# Altium footprint library MK8000TR7.9-GC 封装.PcbLib: 1 footprints
Each footprint in its own frame and in the unit in brackets; x right, y up, seen from the top. Pads: shape width x height; smd on the part's side, far side on the other; paste and mask are expansions set on the pad; w line width, h text height; cw(c..) or ccw(c..) is an arc to the next point about the centre after c.
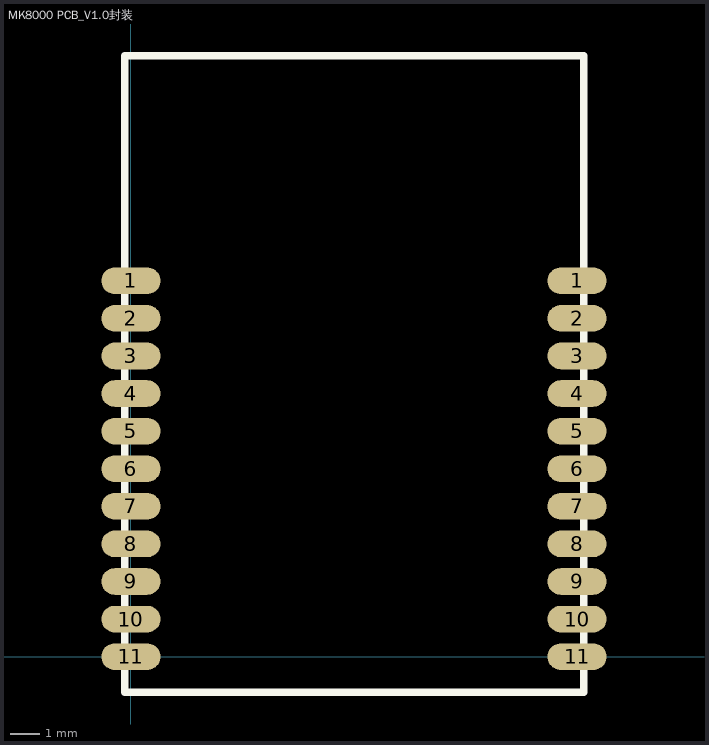
[diagram p0: the footprint, top view; thin cyan lines are the x and y axes]

## MK8000 PCB_V1.0封装 [mm]
pads (22):
  oval 2x0.9 smd: 1(0,12.7) 1(15.075,12.7) 2(0,11.43) 2(15.075,11.43) 3(0,10.16) 3(15.075,10.16) 4(0,8.89) 4(15.075,8.89) 5(0,7.62) 5(15.075,7.62) 6(0,6.35) 6(15.075,6.35) 7(0,5.08) 7(15.075,5.08) 8(0,3.81) 8(15.075,3.81) 9(0,2.54) 9(15.075,2.54) 10(0,1.27) 10(15.075,1.27) 11(0,0) 11(15.075,0)
Top Overlay:
  lines w0.254: -0.2,-1.2 -0.2,20.3 15.3,20.3 15.3,-1.2 -0.2,-1.2